# Altium schematic symbol library sx1278.SchLib: 2 symbols
Pins are listed as number, name and electrical type; pins without a type are passive.

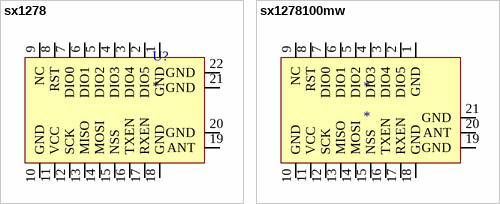
[diagram p0: symbols sx1278 to sx1278100mw]

## sx1278
designator U?
pins: 1 GND, 2 DIO5, 3 DIO4, 4 DIO3, 5 DIO2, 6 DIO1, 7 DIO0, 8 RST, 9 NC, 10 GND, 11 VCC, 12 SCK, 13 MISO, 14 MOSI, 15 NSS, 16 TXEN, 17 RXEN, 18 GND, 19 ANT, 20 GND, 21 GND, 22 GND

## sx1278100mw
designator *
pins: 1 GND, 2 DIO5, 3 DIO4, 4 DIO3, 5 DIO2, 6 DIO1, 7 DIO0, 8 RST, 9 NC, 10 GND, 11 VCC, 12 SCK, 13 MISO, 14 MOSI, 15 NSS, 16 TXEN, 17 RXEN, 18 GND, 19 GND, 20 ANT, 21 GND